# EAGLE library part AUDIOAMP_MAX98306 (library microbuilder)
MAX98306 3.7W Stereo Audio Amp - TDFN14 3.7W @ 3 ohm, 2.6-5.5V supply, 6-18dB selectable gain
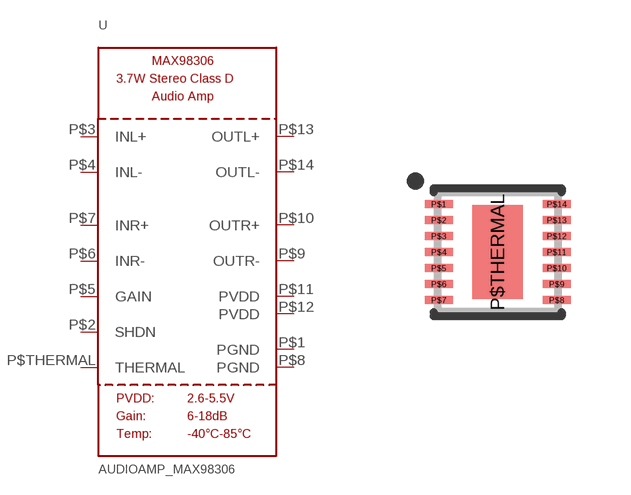
[diagram p202: symbol with the pads of TDFN14_3X3MM; footprint TDFN14_3X3MM]

Designator prefix U

## AUDIOAMP_MAX98306  [TDFN14_3X3MM]
P$1  PGND  pwr
P$2  SHDN  in
P$3  INL+  in
P$4  INL-  in
P$5  GAIN  in
P$6  INR-  in
P$7  INR+  in
P$8  PGND  pwr
P$9  OUTR-  out
P$10  OUTR+  out
P$11  PVDD  pwr
P$12  PVDD  pwr
P$13  OUTL+  out
P$14  OUTL-  out
P$THERMAL  THERMAL  pwr

## Footprint TDFN14_3X3MM (pad centres in mm)
TDFN 14 3x3x0.75mm Source: http://datasheets.maxim-ic.com/en/ds/MAX98306.pdf Based on recommendtions in: http://www.freescale.com/files/sensors/doc/data_sheet/MAG3110.pdf
smd 0.7 x 0.2: P$1 -1.475,1.2; P$2 -1.475,0.8; P$3 -1.475,0.4; P$4 -1.475,0; P$5 -1.475,-0.4; P$6 -1.475,-0.8; P$7 -1.475,-1.2; P$8 1.475,-1.2; P$9 1.475,-0.8; P$10 1.475,-0.4; P$11 1.475,0; P$12 1.475,0.4; P$13 1.475,0.8; P$14 1.475,1.2
smd 1.27 x 2.35: P$THERMAL 0,0